# EAGLE library part MINI-PCIE_LOCK (library Connector)
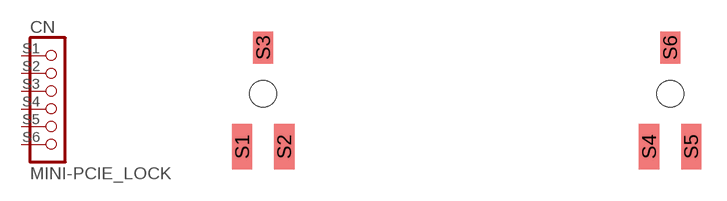
[diagram p16: symbol with the pads of MINI-PCIE_LOCK; footprint MINI-PCIE_LOCK]

Designator prefix CN

## MINI-PCIE_LOCK  [MINI-PCIE_LOCK]
S1  1  pas
S2  2  pas
S3  3  pas
S4  4  pas
S5  5  pas
S6  6  pas

## Footprint MINI-PCIE_LOCK (pad centres in mm)
smd 1.2 x 2.7: S1 -9.5,-3.15; S2 -7,-3.15; S4 14.7,-3.15; S5 17.2,-3.15
smd 1.2 x 1.9: S3 -8.25,2.75; S6 15.95,2.75
hole 1.6 at -8.25,0
hole 1.6 at 15.95,0